# EAGLE library part LCD-GLCD-320X240 (library mylib)
LCD-GLCD-320x240 : 320x240pixel color LCD module Packages : -2.4 : 2.54 x 2 x 19, ILI9325 LCD Controller
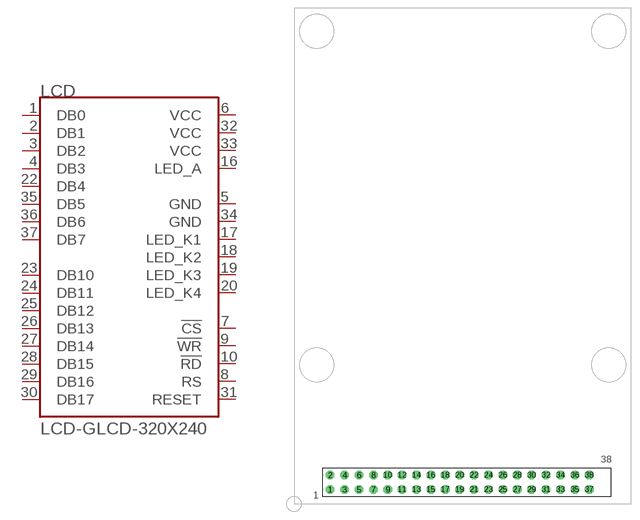
[diagram p72: symbol with the pads of LCD-GLCD-320X240-2.4; footprint LCD-GLCD-320X240-2.4]

Designator prefix LCD

## LCD-GLCD-320X240-2.4  [LCD-GLCD-320X240-2.4]
1  DB0
2  DB1
3  DB2
4  DB3
5  GND  pwr
6  VCC  pwr
7  !CS!  in
8  RS  in
9  !WR!  in
10  !RD!  in
16  LED_A  pwr
17  LED_K1  pwr
18  LED_K2  pwr
19  LED_K3  pwr
20  LED_K4  pwr
22  DB4
23  DB10
24  DB11
25  DB12
26  DB13
27  DB14
28  DB15
29  DB16
30  DB17
31  RESET  in
32  VCC  pwr
33  VCC  pwr
34  GND  pwr
35  DB5
36  DB6
37  DB7

## Footprint LCD-GLCD-320X240-2.4 (pad centres in mm)
drill 1.016 octagon: 1 6.35,2.54; 2 6.35,5.08; 3 8.89,2.54; 4 8.89,5.08; 5 11.43,2.54; 6 11.43,5.08; 7 13.97,2.54; 8 13.97,5.08; 9 16.51,2.54; 10 16.51,5.08; 11 19.05,2.54; 12 19.05,5.08; 13 21.59,2.54; 14 21.59,5.08; 15 24.13,2.54; 16 24.13,5.08; 17 26.67,2.54; 18 26.67,5.08; 19 29.21,2.54; 20 29.21,5.08; 21 31.75,2.54; 22 31.75,5.08; 23 34.29,2.54; 24 34.29,5.08; 25 36.83,2.54; 26 36.83,5.08; 27 39.37,2.54; 28 39.37,5.08; 29 41.91,2.54; 30 41.91,5.08; 31 44.45,2.54; 32 44.45,5.08; 33 46.99,2.54; 34 46.99,5.08; 35 49.53,2.54; 36 49.53,5.08; 37 52.07,2.54; 38 52.07,5.08